# Altium schematic symbol library SamacSys.SchLib: 2 symbols
Pins are listed as number, name and electrical type; pins without a type are passive.

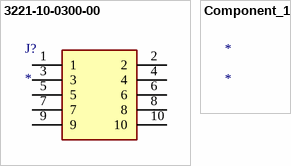
[diagram p0: symbols 3221-10-0300-00 to Component_1]

## 3221-10-0300-00
designator J?
Connector; Manufacturer_Name: CNC Tech; Description: 3221-10-0300-00; Datasheet Link: http://cnctech.us/pdfs/3221-XX-0300-00.pdf; Height: 5.8mm; Manufacturer_Part_Number: 3221-10-0300-00; Arrow Part Number: 3221-10-0300-00; Arrow Price/Stock: https://www.arrow.com/en/products/3221-10-0300-00/cnc-tech-llc
footprint 322110030000
pins: 1, 2, 3, 4, 5, 6, 7, 8, 9, 10

## Component_1
designator *